# Altium schematic symbol library INFINITY.Diod.SchLib: 5 symbols
Pins are listed as number, name and electrical type; pins without a type are passive.

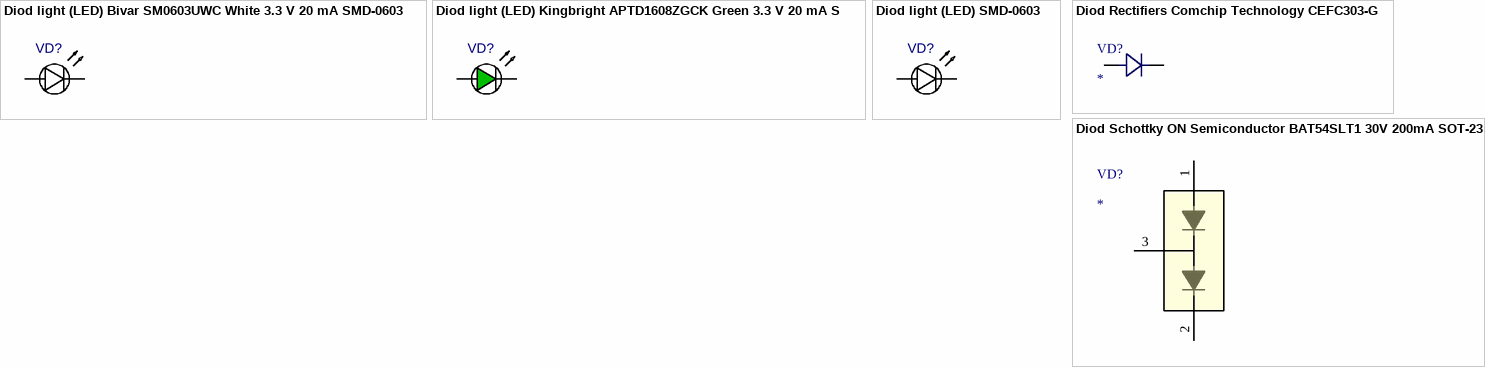
[diagram p0: symbols Diod light (LED) Bivar SM0603UWC White 3.3 V 20 mA SMD-0603 to Diod Schottky ON Semiconductor BAT54SLT1 30V 200mA SOT-23]

## Diod light (LED) Bivar SM0603UWC White 3.3 V 20 mA SMD-0603
designator VD?
pins: 1, 2

## Diod light (LED) Kingbright APTD1608ZGCK Green 3.3 V 20 mA SMD-0603
designator VD?
pins: 1, 2

## Diod light (LED) SMD-0603
designator VD?
pins: 1, 2

## Diod Rectifiers Comchip Technology CEFC303-G
designator VD?
pins: 1, 2

## Diod Schottky ON Semiconductor BAT54SLT1 30V 200mA SOT-23
designator VD?
pins: 1, 2, 3